# Altium schematic symbol library muRata.SchLib: 1 symbol
Pins are listed as number, name and electrical type; pins without a type are passive.

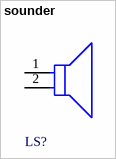
[diagram p0: symbol sounder]

## sounder
designator LS?  (value not drawn)
pins: 1, 2